# Altium schematic symbol library Mixer.SchLib: 1 symbol
Pins are listed as number, name and electrical type; pins without a type are passive.

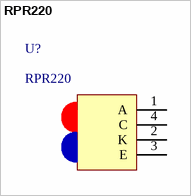
[diagram p0: symbol RPR220]

## RPR220
designator U?
PHOTOINTERRUPTER REFL 6MM 800NM; Manufacturer: Rohm Semiconductor; Manufacturer Part Number: RPR-220; Link: http://www.digikey.com/product-detail/en/RPR-220/511-1366-ND/638554; Digi-Key Part Number: 511-1366-ND
pins: 1 A, 2 K, 3 E, 4 C